# EAGLE library part MICROSD_3M_2900 (library tvikia)
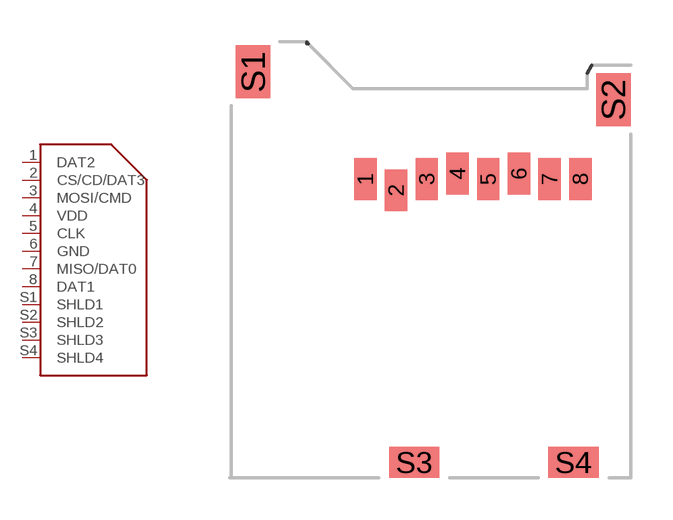
[diagram p0: symbol with the pads of MICROSD_3M_2900; footprint MICROSD_3M_2900]

Designator prefix -

## MICROSD_3M_2900  [MICROSD_3M_2900]
1  DAT2
2  CS/CD/DAT3
3  MOSI/CMD
4  VDD
5  CLK
6  GND
7  MISO/DAT0
8  DAT1
S1  SHLD1  pwr
S2  SHLD2  pwr
S3  SHLD3  pwr
S4  SHLD4  pwr

## Footprint MICROSD_3M_2900 (pad centres in mm)
smd 0.8 x 1.5: 1 -9.5,10.7; 2 -8.4,10.3; 3 -7.3,10.7; 4 -6.2,10.9; 5 -5.1,10.7; 6 -4,10.9; 7 -2.9,10.7; 8 -1.8,10.7
smd 1.24 x 1.9: S1 -13.52,14.55; S2 -0.62,13.55
smd 1.8 x 1.1: S3 -7.75,0.55; S4 -2.05,0.55